# Altium schematic symbol library IND,6.8uH,550mA,Wirewound,0805.Schlib: 1 symbol
Pins are listed as number, name and electrical type; pins without a type are passive.

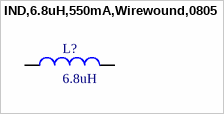
[diagram p0: symbol IND,6.8uH,550mA,Wirewound,0805]

## IND,6.8uH,550mA,Wirewound,0805
designator L?, comment 6.8uH
Shielded Multilayer Inductor 250mOhm 0805 (2012 Metric)
pins: 1, 2